# Altium schematic symbol library Diodes.SchLib: 62 symbols
Pins are listed as number, name and electrical type; pins without a type are passive.

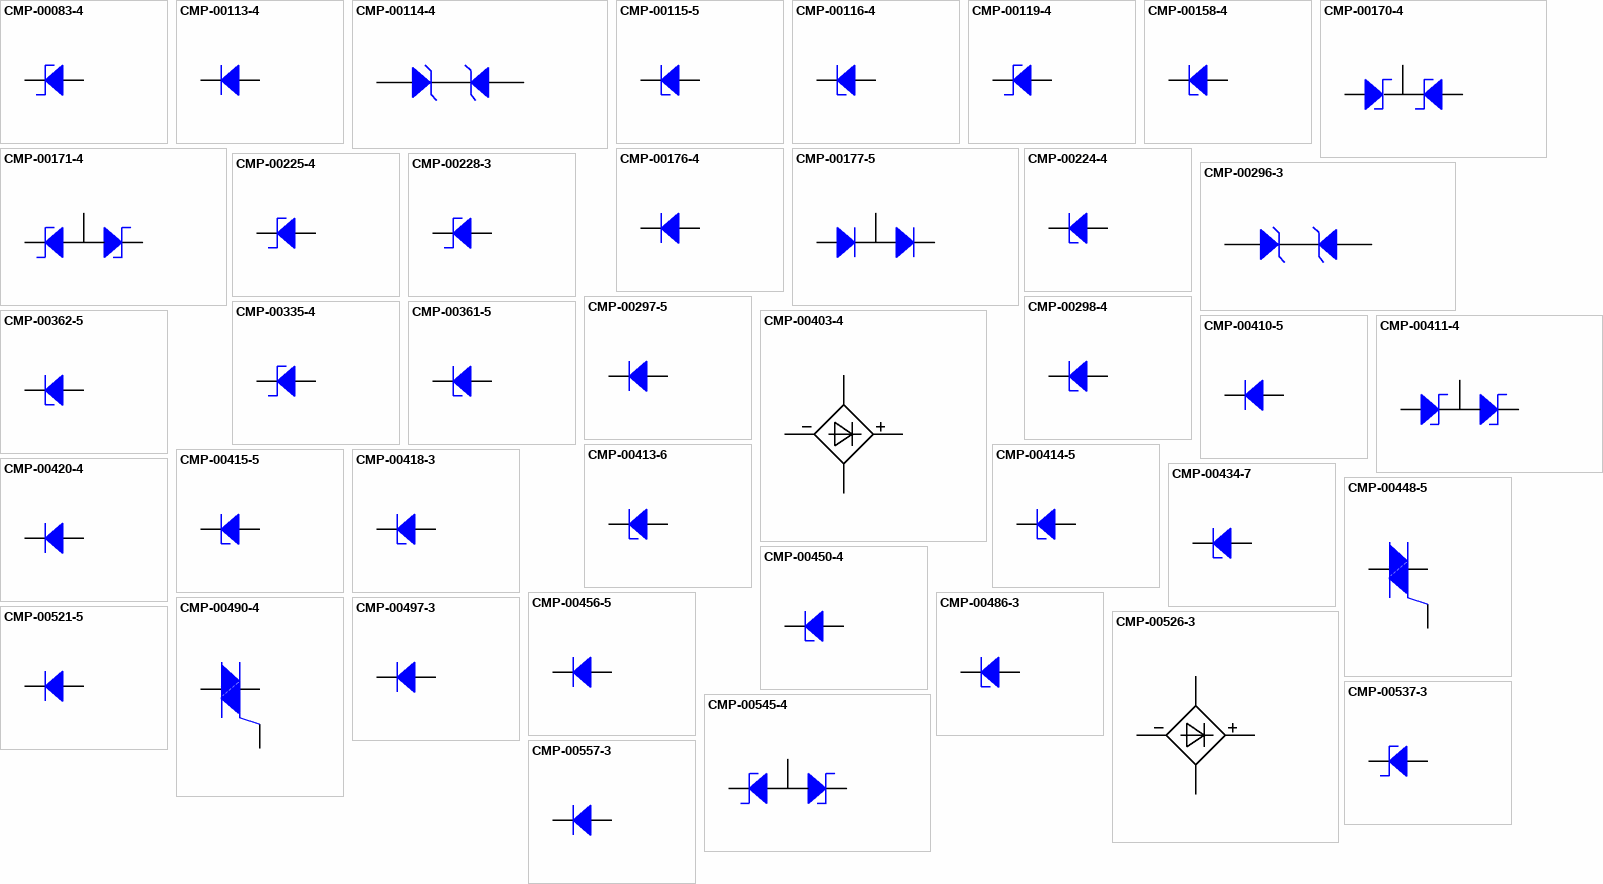
[diagram p0: symbols CMP-00083-4 to CMP-00557-3]

## CMP-00083-4
designator D?, comment JV  value BAT54HT1G
BAT54HT1G; Component Name: Schottky Barrier Diodes, BAT54HT1G, SOD-323; Package: SOD-323; Marking: JV; ComponentLink1Description: Datasheet; ComponentLink1URL: http://www.onsemi.ru.com/pub_link/Collateral/BAT54HT1-D.PDF; Mounting type: SMD
footprint SOD323
pins: 1, 2

## CMP-00113-4
designator D?, comment LL4148  Component Name: Small Signal Fast Switching Diodes, LL4148, SOD-80  Package: SOD-80  ComponentLink1Description: Datasheet  Mounting type: SMD
Marking: LL4148; Value: LL4148; ComponentLink1URL: http://www.vishay.com/docs/85557/ll4148.pdf
footprint SOD-80
pins: 1, 2

## CMP-00114-4
designator D?, comment QXC
1SMA10CAT3; Component Name: Transient Voltage Suppressor, 1SMA10CAT3, SMA; Marking: QXC; Package: SMA; Value: 1SMA10CAT3; ComponentLink1Description: Datasheet; ComponentLink1URL: http://www.onsemi.com/pub_link/Collateral/1SMA10CAT3-D.PDF; Mounting type: SMD
footprint SMA
pins: 1, 2

## CMP-00115-5
designator Z?, comment L1  value BZX384-B5V6  Component Name: Zener Voltage Regulators, BZX384-B5V6, SOD-323  Package: SOD-323  ComponentLink1Description: Datasheet  Mounting type: SMD
BZX384-B5V6; Marking: L1; ComponentLink1URL: http://www.nxp.com/documents/data_sheet/BZX384_SERIES.pdf
footprint SOD323
pins: 1, 2

## CMP-00116-4
designator Z?, comment CVM  value MMSZ4690T1G  Component Name: Zener Voltage Regulators, MMSZ4690T1G, SOD-123  Package: SOD-123  ComponentLink1Description: Datasheet  Mounting type: SMD
MMSZ4690T1G, 5.32V; Marking: CVM; ComponentLink1URL: http://www.onsemi.com/pub_link/Collateral/MMSZ4678T1-D.PDF
footprint SOD123
pins: 1, 2

## CMP-00119-4
designator D?, comment BAS85
Component Name: Schottky barrier diode, BAS85, SOD-80C; Package: SOD-80C; Marking: BAS85; Value: BAS85; ComponentLink1Description: Datasheet; ComponentLink1URL: http://www.nxp.com/documents/data_sheet/BAS85.pdf; Mounting type: SMD
footprint SOD-80C
pins: 1, 2

## CMP-00158-4
designator Z?, comment CT  value MMSZ4688T1G  Component Name: Zener Voltage Regulators, MMSZ4688T1G, SOD-123  Package: SOD-323  ComponentLink1Description: Datasheet  Mounting type: SMD
MMSZ4688T1G, 4.7V; Marking: CT; ComponentLink1URL: http://www.onsemi.com/pub_link/Collateral/MMSZ4678T1-D.PDF
footprint SOD123
pins: 1, 2

## CMP-00170-4
designator D?, comment 75  value BAS70-05W
BAS70-05W; Component Name: Schottky diode, BAS70-05W, SOT-23; Package: SOT-23; Marking: 75; ComponentLink1Description: Datasheet; ComponentLink1URL: http://www.nxp.com/documents/data_sheet/BAS70_1PS7XSB70_SER.pdf; Mounting type: SMD
footprint SOT23
footprint SOT-23
pins: 1, 2, 3

## CMP-00171-4
designator D?, comment 76  value BAS70-06W
BAS70-06W; Component Name: Schottky diode, BAS70-06W, SOT-23; Package: SOT-23; Marking: 76; ComponentLink1Description: Datasheet; ComponentLink1URL: http://www.nxp.com/documents/data_sheet/BAS70_1PS7XSB70_SER.pdf; Mounting type: SMD
footprint SOT23
footprint SOT-23
pins: 1, 2, 3

## CMP-00176-4
designator D?, comment ES1A  Component Name: Rectifier, ES1A, SMA  Package: SMA  ComponentLink1Description: Datasheet  Mounting type: SMD
Value: ES1A; Marking: ES1A; ComponentLink1URL: https://www.fairchildsemi.com/datasheets/ES/ES1D.pdf
footprint SMA
pins: 1, 2

## CMP-00177-5
designator D?, comment A7
BAV99; Component Name: High-speed switching diodes, BAV99, SOT-23; Package: SOT-23; Marking: A7; Value: BAV99; ComponentLink1Description: Datasheet; ComponentLink1URL: http://www.nxp.com/documents/data_sheet/BAV99_SER.pdf; Mounting type: SMD
footprint SOT23
footprint SOT-23
pins: 1, 2, 3

## CMP-00224-4
designator Z?, comment BZV55  value BZV55-B3V3  Component Name: Voltage regulator diodes, BZV55-B3V3, SOD-80C  Package: SOD-80C  ComponentLink1Description: Datasheet  Mounting type: SMD
BZV55-B3V3; Marking: BZV55; ComponentLink1URL: http://www.nxp.com/documents/data_sheet/BZV55_SER.pdf
footprint SOD-80C
pins: 1, 2

## CMP-00225-4
designator D?, comment S0  value 1PS76SB10
1PS76SB10; Component Name: Schottky barrier single diodes, 1PS76SB10, SOD-323; Package: SOD-323; Marking: S0; ComponentLink1Description: Datasheet; ComponentLink1URL: http://www.nxp.com/documents/data_sheet/1PS76SB10.PDF; Mounting type: SMD
footprint SOD323
pins: 1, 2

## CMP-00228-3
designator D?, comment SK25
Component Name: Schottky Barrier Diodes, SK25, SMB; Package: SMB; Value: SK25; Marking: SK25; ComponentLink1Description: Datasheet; ComponentLink1URL: http://www.tme.eu/ru/Document/d871a179795794e96dbabe1c032e5183/SK22-DIO.pdf; Mounting type: SMD
footprint SMB (DO-214AA)
pins: 1, 2

## CMP-00296-3
designator D?, comment xxC
1SMA20CAT3; Component Name: Transient Voltage Suppressor, 1SMA20CAT3, SMA; ComponentLink1URL: http://www.mouser.com/ds/2/308/1SMA5.0AT3-D-43155.pdf; Mounting type: SMD; Marking: xxC; Package: SMA; Value: 1SMA20CAT3; ComponentLink1Description: Datasheet
footprint SMA
pins: 1, 2

## CMP-00297-5
designator D?, comment JSM  value BAS21HT1G  Component Name: High Voltage Switching Diode, BAS21HT1G, SOD-323  Package: SOD-323  ComponentLink1Description: Datasheet  Mounting type: SMD
BAS21HT1G; Marking: JSM; ComponentLink1URL: http://www.onsemi.com/pub_link/Collateral/BAS21HT1-D.PDF
footprint SOD323
pins: 1, 2

## CMP-00298-4
designator Z?, comment xxM  value MMSZ4678T1G  Component Name: Zener Voltage Regulators, MMSZ4678T1G, SOD-123  Package: SOD-123  ComponentLink1Description: Datasheet  Mounting type: SMD
MMSZ4678T1G, 500mV; Marking: xxM; ComponentLink1URL: http://www.onsemi.com/pub_link/Collateral/MMSZ4678T1-D.PDF
footprint SOD123
pins: 1, 2

## CMP-00335-4
designator D?, comment 1BL3  value MBRS130LT3
MBRS130LT3; Component Name: Schottky Barrier Diodes, MBRS130LT3, SMB; Marking: 1BL3; Package: SMB; ComponentLink1Description: Datasheet; ComponentLink1URL: http://www.onsemi.com/pub_link/Collateral/MBRS130LT3-D.PDF; Mounting type: SMD
footprint SMB (DO-214AA)
pins: 1, 2

## CMP-00361-5
designator Z?, comment BZX85  value BZX85C3V6  ComponentLink1Description: Datasheet  Mounting type: SMD  Component Name: Zener Diodes, BZX85C3V6, DO-41  Package: DO-41
BZX85C3V6; ComponentLink1URL: http://www.vishay.com/docs/85607/bzx85.pdf; Marking: BZX85
footprint DO-204AL (DO-41)
footprint DO-41 vertical
pins: 1, 2

## CMP-00362-5
designator Z?, comment BZX85  value BZX85C22V  ComponentLink1Description: Datasheet  Mounting type: PTH  Component Name: Zener Diodes, BZX85C22V, DO-41  Package: DO-41
BZX85C22V; ComponentLink1URL: http://www.vishay.com/docs/85607/bzx85.pdf; Marking: BZX85
footprint DO-204AL (DO-41)
footprint DO-41 vertical
pins: 1, 2

## CMP-00403-4
designator D?, comment CDNBS04
CDNBS04-B08600; Component Name: Surface Mount Bridge Rectifier,CDNBS04-B08600, SOIC-4; Value: CDNBS04; ComponentLink1Description: Datasheet; Mounting type: SMD; ComponentLink1URL: https://www.bourns.com/pdfs/CDNBS04-B08200_B08800.pdf; Marking: CDNBS04; Package: SOIC-4
footprint SOIC-4 (br)
pins: 1 +, 2 -, 3, 4

## CMP-00410-5
designator D?, comment SM4007  Component Name: Rectifier Diodes, SM4007, DO-113AB  Package: DO-113AB  ComponentLink1Description: Datasheet  Mounting type: SMD
Marking: SM4007; Value: SM4007; ComponentLink1URL: http://diotec.com/tl_files/diotec/files/pdf/datasheets/sm4001
footprint DO-213AB
pins: 1, 2

## CMP-00411-4
designator D?, comment *V4  value BAT54S
BAT54S; Component Name: Schottky diode, BAT54S, SOT-23; Package: SOT-23; Marking: *V4; ComponentLink1Description: Datasheet; ComponentLink1URL: http://www.nxp.com/documents/data_sheet/BAT54_SER.pdf; Mounting type: SMD
footprint SOT23
footprint SOT-23
pins: 1, 2, 3

## CMP-00413-6
designator Z?, comment BZX85  value BZX85C30V  Component Name: Zener Diodes, BZX85C30V, DO-41  Package: DO-41  ComponentLink1Description: Datasheet  Mounting type: PTH
BZX85C30V; Marking: BZX85; ComponentLink1URL: http://www.vishay.com/docs/85607/bzx85.pdf
footprint DO-204AL (DO-41)
footprint DO-41 vertical
pins: 1, 2

## CMP-00414-5
designator Z?, comment BZX85  value BZX85C15V  Component Name: Zener Diodes, BZX85C15V, DO-41  Package: DO-41  ComponentLink1Description: Datasheet  Mounting type: SMD
BZX85C15V; Marking: BZX85; ComponentLink1URL: http://www.vishay.com/docs/85607/bzx85.pdf
footprint DO-204AL (DO-41)
footprint DO-41 vertical
pins: 1, 2

## CMP-00415-5
designator Z?, comment BZX85  value BZX85C3V3  Component Name: Zener Diodes, BZX85C3V3, DO-41  Package: DO-41  ComponentLink1Description: Datasheet  Mounting type: SMD
BZX85C3V3; Marking: BZX85; ComponentLink1URL: http://www.vishay.com/docs/85607/bzx85.pdf
footprint DO-204AL (DO-41)
footprint DO-41 vertical
pins: 1, 2

## CMP-00418-3
designator Z?, comment BZV55C75  Component Name: Zener Diodes, BZV55C75, MiniMELF  Package: MiniMELF  ComponentLink1Description: Datasheet  Mounting type: SMD
Marking: BZV55C75; Value: BZV55C75; ComponentLink1URL: http://www.nxp.com/documents/data_sheet/BZV55_SER.pdf
footprint Mini MELF
pins: 1, 2

## CMP-00420-4
designator D?, comment ES1J  Component Name: Rectifier, ES1J, SMA  Package: SMA  ComponentLink1Description: Datasheet  Mounting type: SMD
Marking: ES1J; Value: ES1J; ComponentLink1URL: https://www.fairchildsemi.com/datasheets/ES/ES1J.pdf
footprint SMA
pins: 1, 2

## CMP-00434-7
designator Z?, comment 1N4007  Component Name: Zener Diodes, 1N4007, DO-41  ComponentLink1Description: Datasheet  Package: DO-41  Mounting type: PTH
1N4007 PTH; ComponentLink1URL: http://www.diodes.com/_files/datasheets/ds28002.pdf; Marking: 1N4007; Value: 1N4007
footprint DO-204AL (DO-41)
footprint DO-41 vertical
pins: 1, 2

## CMP-00448-5
designator D?, comment BTA06
BTA06-600CRG; Component Name: Triac, BTA06-600CRG, TO-220AB; Package: TO-220; Marking: BTA06; Value: BTA06-600CRG; ComponentLink1Description: Datasheet; ComponentLink1URL: http://www.st.com/content/ccc/resource/technical/document/datasheet/d8/82/66/ee/67/5b/4e/7f/CD00000670.pdf/files/CD00000670.pdf/jcr:content/translations/en.CD00000670.pdf; Mounting type: PTH
footprint TO-220 R
footprint TO-220AB
pins: 1, 2, 3

## CMP-00450-4
designator Z?, comment BZV55  value BZV55-B5V1  Component Name: Voltage regulator diodes, BZV55-B5V1, SOD-80C  Package: SOD-80C  ComponentLink1Description: Datasheet  Mounting type: SMD
BZV55-B5V1; Marking: BZV55; ComponentLink1URL: http://www.nxp.com/documents/data_sheet/BZV55_SER.pdf
footprint SOD-80C
pins: 1, 2

## CMP-00456-5
designator D?, comment H1  value CRH01
CRH01; Component Name: Schottky diode, CRH01, SOD-123; Package: SOT-123; Marking: H1; ComponentLink1Description: Datasheet; ComponentLink1URL: http://radio-hobby.org/uploads/datasheet/9/crh0/crh01.pdf; Mounting type: SMD
footprint SOD123
pins: 1, 2

## CMP-00486-3
designator Z?, comment 1N4748  ComponentLink1Description: Datasheet  Mounting type: PTH  Component Name: Zener Diodes, 1N4748, DO-41  Package: DO-41
Value: 1N4748; ComponentLink1URL: http://www.vishay.com/docs/85816/1n4728a.pdf; Marking: 1N4748
footprint DO-204AL (DO-41)
footprint DO-41 vertical
pins: 1, 2

## CMP-00490-4
designator D?, comment BTA08
BTA08-600BW3G; Component Name: Triac, BTA08-600BW3G, TO-220AB; Package: TO-220; Marking: BTA08; Value: BTA08-600BW3G; ComponentLink1Description: Datasheet; ComponentLink1URL: http://www.onsemi.com/pub_link/Collateral/BTA08-600BW3-D.PDF; Mounting type: PTH
footprint TO-220 R
footprint TO-220AB
pins: 1, 2, 3

## CMP-00497-3
designator D?, comment BAV203  ComponentLink1Description: Datasheet  Mounting type: SMD  Component Name: Small Signal Switching Diodes, BAV203-GS08, SOD-80  Package: SOD-80
BAV203-GS08; Value: BAV203; ComponentLink1URL: http://www.vishay.com/docs/85544/bav200.pdf; Marking: BAV203
footprint SOD-80
pins: 1, 2

## CMP-00521-5
designator D?, comment SF16  ComponentLink1Description: Datasheet  Mounting type: SMT  Component Name: Super Fast Rectifiers Diodes, SF16, DO-41  Package: DO-41
Value: SF16; ComponentLink1URL: http://lib.chipdip.ru/031/DOC001031968.pdf; Marking: SF16
footprint DO-204AL (DO-41)
footprint DO-41 P
footprint DO-41 vertical
pins: 1, 2

## CMP-00526-3
designator D?, comment MB6S
Component Name: Surface Mount Bridge Rectifier, MB6S, TO-269AA; Value: MB6S; ComponentLink1Description: Datasheet; Mounting type: SMD; ComponentLink1URL: http://www.vishay.com/docs/88661/mb2s.pdf; Marking: MB6S; Package: TO-269AA
footprint TO-269AA
pins: 1 +, 2 -, 3, 4

## CMP-00537-3
designator D?, comment USCD024H
Component Name: Schottky Barrier Diodes, USCD024H, 0603; Value: USCD024H; ComponentLink1Description: Datasheet; Mounting type: SMD; ComponentLink1URL: http://nz.apexelex.com/specs/diodes_schottky/USCD022H~USCD024H.pdf; Marking: USCD024H; Package: 0603
footprint 0603
pins: 1, 2

## CMP-00545-4
designator D?, comment V9*  value BZB84-B2V4  Component Name: Dual Zener diodes, BZB84-B2V4, SOT-23  Package: SOT-23  ComponentLink1Description: Datasheet  Mounting type: SMD
BZB84-B2V4; Marking: V9*; ComponentLink1URL: http://www.nxp.com/documents/data_sheet/BZB84_SER.pdf
footprint SOT23
footprint SOT-23
pins: 1, 2, 3

## CMP-00557-3
designator D?, comment BZX84  value BZX84-2v4  ComponentLink1Description: Datasheet  Mounting type: SMD  Component Name: Voltage regulator diodes, BZX84-2v4, SOT-23  Package: SOT-23
ComponentLink1URL: http://www.nxp.com/documents/data_sheet/BZX84_SER.pdf; Marking: BZX84
footprint SOT-23-2
pins: 1, 2

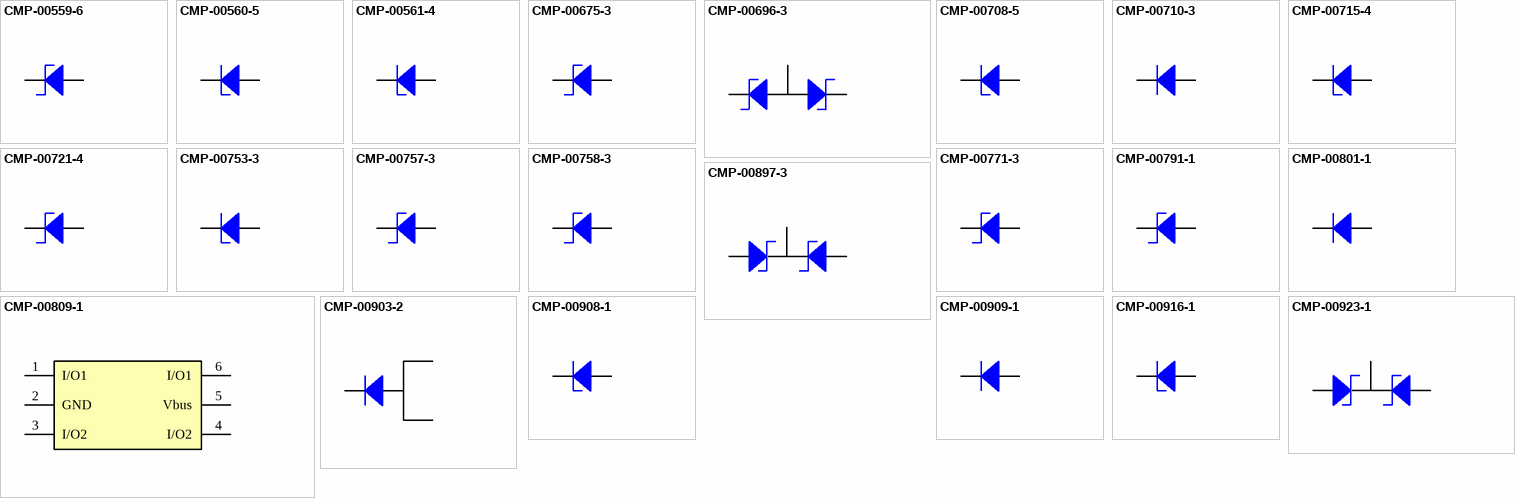
[diagram p1: symbols CMP-00559-6 to CMP-00923-1]

## CMP-00559-6
designator D?, comment AH  value PMEG2010EJ
PMEG2010EJ; Component Name: Schottky barrier rectifiers, PMEG2010EJ, SOD-323; Package: SOD-323; Marking: AH; ComponentLink1Description: Datasheet; ComponentLink1URL: http://cache.nxp.com/documents/data_sheet/PMEG2010EH_EJ_ET.pdf?pspll=1; Mounting type: SMD
footprint SOD323
pins: 1, 2

## CMP-00560-5
designator Z?, comment CKM  value MMSZ4684T1G  Component Name: Zener Voltage Regulators, MMSZ4684T1G, SOD-123  Package: SOD-123  ComponentLink1Description: Datasheet  Mounting type: SMD
MMSZ4684T1G, 3.3V; Marking: CKM; ComponentLink1URL: http://www.onsemi.com/pub_link/Collateral/MMSZ4678T1-D.PDF
footprint SOD323
pins: 1, 2

## CMP-00561-4
designator Z?, comment BZV55  value BZV55-B3V3  Component Name: Voltage regulator diodes, BZV55-C3V3, SOD-80C  Package: SOD-80C  ComponentLink1Description: Datasheet  Mounting type: SMD
BZV55-C3V3; Marking: BZV55; ComponentLink1URL: http://www.nxp.com/documents/data_sheet/BZV55_SER.pdf
footprint SOD-80C
pins: 1, 2

## CMP-00675-3
designator D?, comment BUZ
SMBJ5.0A-TR; Component Name: Schottky Barrier Diodes, SMBJ5.0A-TR, SMB; ComponentLink1URL: http://www.mouser.com/ds/2/389/CD00001366-310691.pdf; Value: SMBJ5.0A-TR; ComponentLink1Description: Datasheet; Mounting type: SMD; Marking: BUZ; Package: SMB
footprint SMB (DO-214AA)
pins: 1, 2

## CMP-00696-3
designator D?, comment BZB784  value BZB784-C4V7  ComponentLink1Description: Datasheet  Mounting type: SMD  Component Name: Dual Zener diodes, BZB784-C4V7, SOT-323  Package: SOT-323
BZB784-C4V7; ComponentLink1URL: http://www.mouser.com/ds/2/302/BZB784_SERIES-840712.pdf; Marking: BZB784
footprint SOT323
pins: 1, 2, 3

## CMP-00708-5
designator Z?, comment MM3Z3V0ST1G  Component Name: Zener Voltage Regulators, MM3Z3V0ST1G, SOD-323  Package: SOD-323  ComponentLink1Description: Datasheet  Mounting type: SMD
MM3Z3V0ST1G, 3.0V; Marking: MM3Z3V0ST1G; Value: MM3Z3V0ST1G; ComponentLink1URL: http://www.onsemi.com/pub/Collateral/MM3Z2V4ST1-D.PDF
footprint SOD123
pins: 1, 2

## CMP-00710-3
designator D?, comment TS4148C RCG  ComponentLink1Description: Datasheet  Mounting type: SMD  Component Name: Rectifier Diodes, TS4148C RCG, 0603  Package: 0603
ComponentLink1URL: http://www.taiwansemi.com/products/datasheet/TS4148C_E1612.pdf; Value: TS4148C RCG; Marking: TS4148C RCG
footprint 0603
pins: 1, 2

## CMP-00715-4
designator Z?, comment 1N4007  Component Name: Zener Diodes, 1N4007, DO-214AC  Package: DO-214AC  ComponentLink1Description: Datasheet  Mounting type: SMD
1N4007 SMD; Marking: 1N4007; Value: 1N4007; ComponentLink1URL: http://www.diodes.com/_files/datasheets/ds28002.pdf
footprint DO-214AC
pins: 1, 2

## CMP-00721-4
designator D?, comment AH  value PMEG2010AEH
PMEG2010AEH; Component Name: Schottky barrier rectifiers, PMEG2010AEH, SOD-123; Package: SOD-123; Marking: AH; ComponentLink1Description: Datasheet; ComponentLink1URL: https://assets.nexperia.com/documents/data_sheet/PMEG2010AEH_PMEG2010AET.pdf; Mounting type: SMD
footprint SOD123
pins: 1, 2

## CMP-00753-3
designator Z?, comment R
PESD5V0C1USF; Component Name: Ultra low capacitance unidirectional ESD protection diode, PESD5V0C1USF, 0603; ComponentLink1URL: http://www.mouser.com/ds/2/302/PESD5V0C1USF-559351.pdf; Value: PESD5V0C1USF; ComponentLink1Description: Datasheet; Mounting type: SMD; Marking: R; Package: 0603
footprint 0603
pins: 1, 2

## CMP-00757-3
designator D?, comment A7  value PMEG3050EP
PMEG3050EP; Component Name: Schottky barrier rectifiers, PMEG3050EP, SOD-128; ComponentLink1URL: http://www.mouser.com/ds/2/302/PMEG3050EP-1151640.pdf; ComponentLink1Description: Datasheet; Mounting type: SMD; Marking: A7; Package: SOD-128
footprint SOD-128
pins: 1, 2

## CMP-00758-3
designator D?, comment CD4148WT
Component Name: Schottky Barrier Diodes, CD4148WT, 0603; ComponentLink1URL: https://www.tme.eu/ru/Document/8a0f4bd1d0e0495ebb1834ba060fbfa0/CD4148.pdf; Value: CD4148WT; ComponentLink1Description: Datasheet; Mounting type: SMD; Marking: CD4148WT; Package: 0603
footprint 0603
pins: 1, 2

## CMP-00771-3
designator D?, comment SS52
Component Name: Schottky Rectifier Diodes, SS52, DO-214AB; ComponentLink1URL: https://www.taitroncomponents.com/catalog/Datasheet/SS52.pdf; Value: SS52; ComponentLink1Description: Datasheet; Mounting type: SMD; Marking: SS52; Package: DO-214AB
footprint DO-214AB
pins: 1, 2

## CMP-00791-1
designator D?, comment B5  value CD0603-B0230
CD0603-B0230; Component Name: Schottky Barrier Diodes, CD0603-B0230, 0603; ComponentLink1URL: https://www.mouser.com/ds/2/54/bcd0603_1005-778009.pdf; ComponentLink1Description: Datasheet; Mounting type: SMD; Marking: B5; Package: 0603
footprint 0603
pins: 1, 2

## CMP-00801-1
designator D?, comment GS1A-LTP  ComponentLink1Description: Datasheet  Mounting type: SMD  Component Name: Passivated Rectifier, GS1A-LTP, SMA  Package: SMA
ComponentLink1URL: http://www.mccsemi.com/up_pdf/GS1A-L~GS1M-L(DO-214AC).pdf; Value: GS1A-LTP; Marking: GS1A-LTP
footprint SMA
pins: 1, 2

## CMP-00809-1
designator Z?, comment UL26
USBLC6-2SC6; Component Name: Very low capacitance ESD protection, USBLC6-2SC6, SOT-23-6; ComponentLink1URL: http://www.st.com/content/ccc/resource/technical/document/datasheet/06/1d/48/9c/6c/20/4a/b2/CD00050750.pdf/files/CD00050750.pdf/jcr:content/translations/en.CD00050750.pdf; Value: USBLC6-2SC6; ComponentLink1Description: Datasheet; Mounting type: SMD; Marking: UL26; Package: SOT-23-6
footprint SOT-23-6
pins: 1 I/O1, 2 GND, 3 I/O2, 4 I/O2, 5 Vbus, 6 I/O1

## CMP-00897-3
designator D?, comment MBRB20100
MBRB20100CT; Component Name: Power rectifier diodes, MBRB20100CT, D2PAK; ComponentLink1URL: http://www.onsemi.com/pub/Collateral/MBRB20100CT-D.PDF; Value: MBRB20100CT; ComponentLink1Description: Datasheet; Mounting type: SMD; Marking: MBRB20100; Package: D2PAK
footprint D2PAK
pins: 1, 2, 3

## CMP-00903-2
designator D?, comment V20PWM10  ComponentLink1Description: Datasheet  Mounting type: SMD  Component Name: High schottky rectifier diodes, V20PWM10, DPAK  Package: DPAK
ComponentLink1URL: http://www.vishay.com/docs/87698/v20pwm10.pdf; Value: V20PWM10; Marking: V20PWM10
footprint DPAK
pins: 1, 2, 3

## CMP-00908-1
designator Z?, comment J
ESDA8P80-1U1M; Component Name: High power transient voltage suppressor, ESDA8P80-1U1M, QFN-2; ComponentLink1URL: https://www.st.com/content/ccc/resource/technical/document/datasheet/group3/56/89/ef/f8/20/0f/4b/d4/DM00255944/files/DM00255944.pdf/jcr:content/translations/en.DM00255944.pdf; Value: ESDA8P80-1U1M; ComponentLink1Description: Datasheet; Mounting type: SMD; Marking: J; Package: QFN-2
footprint QFN-2 1610
pins: 1, 2

## CMP-00909-1
designator D?, comment MSS1P4  value MSS1P4-M3/89A  ComponentLink1Description: Datasheet  Mounting type: SMD  Component Name: Schottky Barrier Rectifiers, MSS1P4-M3/89A, MicroSMP  Package: MicroSMP
MSS1P4-M3/89A; ComponentLink1URL: http://www.vishay.com/docs/89019/mss1p4.pdf; Marking: MSS1P4
footprint MicroSMP
pins: 1, 2

## CMP-00916-1
designator Z?, comment E2  value MMSZ5232BT1G  ComponentLink1Description: Datasheet  Mounting type: SMD  Component Name: Zener Voltage Regulators, MMSZ5232BT1G, SOD-123  Package: SOD-123
MMSZ5232BT1G, 5.6V; ComponentLink1URL: http://www.onsemi.com/pub/Collateral/MMSZ5221BT1-D.PDF; Marking: E2
footprint SOD123
pins: 1, 2

## CMP-00923-1
designator D?, comment PMEG2005
PMEG2005CT; Component Name: Schottky barrier rectifier, PMEG2005CT, SOT-23; ComponentLink1URL: https://assets.nexperia.com/documents/data-sheet/PMEG2005CT.pdf; Value: PMEG2005CT; ComponentLink1Description: Datasheet; Mounting type: SMD; Marking: PMEG2005; Package: SOT-23
footprint SOT23
footprint SOT-23
pins: 1, 2, 3